# Altium footprint library MLB_PCBLib.PcbLib: 75 footprints (part 2 of 5)
Each footprint in its own frame and in the unit in brackets; x right, y up, seen from the top. Pads: shape width x height; smd on the part's side, far side on the other; paste and mask are expansions set on the pad; w line width, h text height; cw(c..) or ccw(c..) is an arc to the next point about the centre after c.
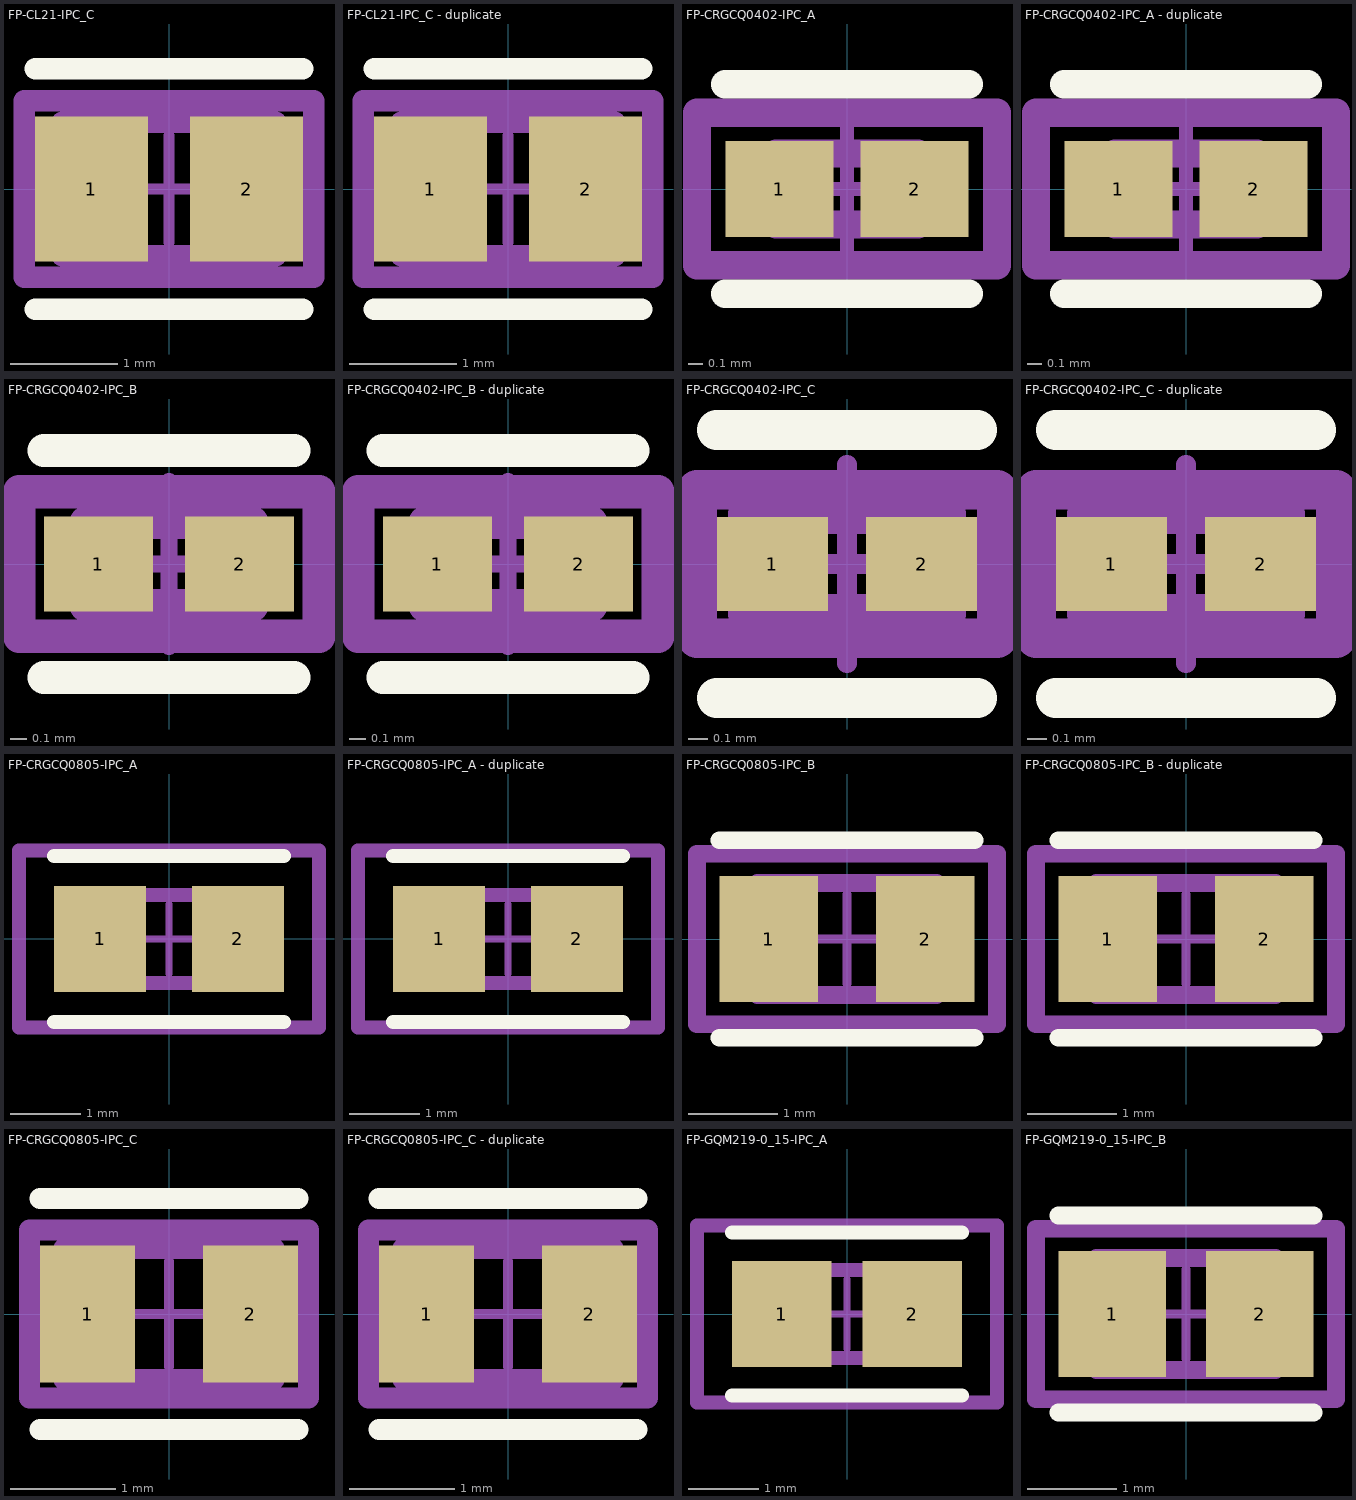
[diagram p1: the footprints below, top view; thin cyan lines are the x and y axes]

## FP-CL21-IPC_C [mm]
pads (2):
  rect 1.055x1.356 smd paste+0 mask+0: 1(-0.726,0) 2(0.726,0)
Top Overlay:
  lines w0.2: -1.253,-1.125 1.253,-1.125 ; -1.253,1.125 1.253,1.125
Top 3D Body:
  lines w0.2: -1,-0.625 -1,0.625 1,0.625 1,-0.625 -1,-0.625
Top Assembly:
  lines w0.2: -1.353,-0.825 -1.353,0.825 1.353,0.825 1.353,-0.825 -1.353,-0.825
  text ".Designator" at 0,0.188 h1
Top Courtyard:
  lines w0.2: -1.353,-0.825 -1.353,0.825 1.353,0.825 1.353,-0.825 -1.353,-0.825
Top Component Center:
  lines w0.1: -0.5,0 0.5,0 ; 0,-0.5 0,0.5
3D body "Cap_Samsung_CL21B273KBANNNC_eec.STEP": height 0.25, standoff 0, extent -1.353,-0.825 1.353,0.825

## FP-CL21-IPC_C - duplicate [mm]
pads (2):
  rect 1.055x1.356 smd paste+0 mask+0: 1(-0.726,0) 2(0.726,0)
Top Overlay:
  lines w0.2: -1.253,-1.125 1.253,-1.125 ; -1.253,1.125 1.253,1.125
Top 3D Body:
  lines w0.2: -1,-0.625 -1,0.625 1,0.625 1,-0.625 -1,-0.625
Top Assembly:
  lines w0.2: -1.353,-0.825 -1.353,0.825 1.353,0.825 1.353,-0.825 -1.353,-0.825
  text ".Designator" at 0,0.188 h1
Top Courtyard:
  lines w0.2: -1.353,-0.825 -1.353,0.825 1.353,0.825 1.353,-0.825 -1.353,-0.825
Top Component Center:
  lines w0.1: -0.5,0 0.5,0 ; 0,-0.5 0,0.5
3D body "Cap_Samsung_CL21B273KBANNNC_eec.STEP": height 0.25, standoff 0, extent -1.353,-0.825 1.353,0.825

## FP-CRGCQ0402-IPC_A [mm]
pads (2):
  rect 0.76x0.672 smd paste+0 mask+0: 1(-0.476,0) 2(0.476,0)
Top Overlay:
  lines w0.2: -0.856,-0.736 0.856,-0.736 ; -0.856,0.736 0.856,0.736
Top 3D Body:
  lines w0.2: -0.5,-0.25 0.5,-0.25 0.5,0.25 -0.5,0.25 -0.5,-0.25
Top Assembly:
  lines w0.2: -1.056,-0.536 1.056,-0.536 1.056,0.536 -1.056,0.536 -1.056,-0.536
  text ".Designator" at 0,0.188 h1
Top Courtyard:
  lines w0.2: -1.056,-0.536 1.056,-0.536 1.056,0.536 -1.056,0.536 -1.056,-0.536
Top Component Center:
  lines w0.1: -0.5,0 0.5,0 ; 0,-0.5 0,0.5
3D body "Res_TE_Connectivity_CRGCQ0402F10R_eec.STEP": height 0.25, standoff 0, extent -1.056,-0.536 1.056,0.536

## FP-CRGCQ0402-IPC_A - duplicate [mm]
pads (2):
  rect 0.76x0.672 smd paste+0 mask+0: 1(-0.476,0) 2(0.476,0)
Top Overlay:
  lines w0.2: -0.856,-0.736 0.856,-0.736 ; -0.856,0.736 0.856,0.736
Top 3D Body:
  lines w0.2: -0.5,-0.25 0.5,-0.25 0.5,0.25 -0.5,0.25 -0.5,-0.25
Top Assembly:
  lines w0.2: -1.056,-0.536 1.056,-0.536 1.056,0.536 -1.056,0.536 -1.056,-0.536
  text ".Designator" at 0,0.188 h1
Top Courtyard:
  lines w0.2: -1.056,-0.536 1.056,-0.536 1.056,0.536 -1.056,0.536 -1.056,-0.536
Top Component Center:
  lines w0.1: -0.5,0 0.5,0 ; 0,-0.5 0,0.5
3D body "Res_TE_Connectivity_CRGCQ0402F10R_eec.STEP": height 0.25, standoff 0, extent -1.056,-0.536 1.056,0.536

## FP-CRGCQ0402-IPC_B [mm]
pads (2):
  rect 0.66x0.572 smd paste+0 mask+0: 1(-0.426,0) 2(0.426,0)
Top Overlay:
  lines w0.2: -0.756,-0.686 0.756,-0.686 ; -0.756,0.686 0.756,0.686
Top 3D Body:
  lines w0.2: -0.5,-0.25 -0.5,0.25 0.5,0.25 0.5,-0.25 -0.5,-0.25
Top Assembly:
  lines w0.2: -0.906,-0.436 -0.906,0.436 0.906,0.436 0.906,-0.436 -0.906,-0.436
  text ".Designator" at 0,0.188 h1
Top Courtyard:
  lines w0.2: -0.906,-0.436 -0.906,0.436 0.906,0.436 0.906,-0.436 -0.906,-0.436
Top Component Center:
  lines w0.1: -0.5,0 0.5,0 ; 0,-0.5 0,0.5
3D body "Res_TE_Connectivity_CRGCQ0402F10R_eec.STEP": height 0.25, standoff 0, extent -0.906,-0.436 0.906,0.436

## FP-CRGCQ0402-IPC_B - duplicate [mm]
pads (2):
  rect 0.66x0.572 smd paste+0 mask+0: 1(-0.426,0) 2(0.426,0)
Top Overlay:
  lines w0.2: -0.756,-0.686 0.756,-0.686 ; -0.756,0.686 0.756,0.686
Top 3D Body:
  lines w0.2: -0.5,-0.25 -0.5,0.25 0.5,0.25 0.5,-0.25 -0.5,-0.25
Top Assembly:
  lines w0.2: -0.906,-0.436 -0.906,0.436 0.906,0.436 0.906,-0.436 -0.906,-0.436
  text ".Designator" at 0,0.188 h1
Top Courtyard:
  lines w0.2: -0.906,-0.436 -0.906,0.436 0.906,0.436 0.906,-0.436 -0.906,-0.436
Top Component Center:
  lines w0.1: -0.5,0 0.5,0 ; 0,-0.5 0,0.5
3D body "Res_TE_Connectivity_CRGCQ0402F10R_eec.STEP": height 0.25, standoff 0, extent -0.906,-0.436 0.906,0.436

## FP-CRGCQ0402-IPC_C [mm]
pads (2):
  rect 0.56x0.472 smd paste+0 mask+0: 1(-0.376,0) 2(0.376,0)
Top Overlay:
  lines w0.2: -0.656,-0.675 0.656,-0.675 ; -0.656,0.675 0.656,0.675
Top 3D Body:
  lines w0.2: -0.5,-0.25 -0.5,0.25 0.5,0.25 0.5,-0.25 -0.5,-0.25
Top Assembly:
  lines w0.2: -0.756,-0.375 -0.756,0.375 0.756,0.375 0.756,-0.375 -0.756,-0.375
  text ".Designator" at 0,0.188 h1
Top Courtyard:
  lines w0.2: -0.756,-0.375 -0.756,0.375 0.756,0.375 0.756,-0.375 -0.756,-0.375
Top Component Center:
  lines w0.1: -0.5,0 0.5,0 ; 0,-0.5 0,0.5
3D body "Res_TE_Connectivity_CRGCQ0402F10R_eec.STEP": height 0.25, standoff 0, extent -0.756,-0.375 0.756,0.375

## FP-CRGCQ0402-IPC_C - duplicate [mm]
pads (2):
  rect 0.56x0.472 smd paste+0 mask+0: 1(-0.376,0) 2(0.376,0)
Top Overlay:
  lines w0.2: -0.656,-0.675 0.656,-0.675 ; -0.656,0.675 0.656,0.675
Top 3D Body:
  lines w0.2: -0.5,-0.25 -0.5,0.25 0.5,0.25 0.5,-0.25 -0.5,-0.25
Top Assembly:
  lines w0.2: -0.756,-0.375 -0.756,0.375 0.756,0.375 0.756,-0.375 -0.756,-0.375
  text ".Designator" at 0,0.188 h1
Top Courtyard:
  lines w0.2: -0.756,-0.375 -0.756,0.375 0.756,0.375 0.756,-0.375 -0.756,-0.375
Top Component Center:
  lines w0.1: -0.5,0 0.5,0 ; 0,-0.5 0,0.5
3D body "Res_TE_Connectivity_CRGCQ0402F10R_eec.STEP": height 0.25, standoff 0, extent -0.756,-0.375 0.756,0.375

## FP-CRGCQ0805-IPC_A [mm]
pads (2):
  rect 1.306x1.51 smd paste+0 mask+0: 1(-0.976,0) 2(0.976,0)
Top Overlay:
  lines w0.2: -1.629,-1.18 1.629,-1.18 ; -1.629,1.18 1.629,1.18
Top 3D Body:
  lines w0.2: -1,-0.625 1,-0.625 1,0.625 -1,0.625 -1,-0.625
Top Assembly:
  lines w0.2: -2.129,-1.255 2.129,-1.255 2.129,1.255 -2.129,1.255 -2.129,-1.255
  text ".Designator" at 0,0.188 h1
Top Courtyard:
  lines w0.2: -2.129,-1.255 2.129,-1.255 2.129,1.255 -2.129,1.255 -2.129,-1.255
Top Component Center:
  lines w0.1: -0.5,0 0.5,0 ; 0,-0.5 0,0.5
3D body "Res_TE_Connectivity_CRGCQ0805F180R_eec.STEP": height 0.25, standoff 0, extent -2.129,-1.255 2.129,1.255

## FP-CRGCQ0805-IPC_A - duplicate [mm]
pads (2):
  rect 1.306x1.51 smd paste+0 mask+0: 1(-0.976,0) 2(0.976,0)
Top Overlay:
  lines w0.2: -1.629,-1.18 1.629,-1.18 ; -1.629,1.18 1.629,1.18
Top 3D Body:
  lines w0.2: -1,-0.625 1,-0.625 1,0.625 -1,0.625 -1,-0.625
Top Assembly:
  lines w0.2: -2.129,-1.255 2.129,-1.255 2.129,1.255 -2.129,1.255 -2.129,-1.255
  text ".Designator" at 0,0.188 h1
Top Courtyard:
  lines w0.2: -2.129,-1.255 2.129,-1.255 2.129,1.255 -2.129,1.255 -2.129,-1.255
Top Component Center:
  lines w0.1: -0.5,0 0.5,0 ; 0,-0.5 0,0.5
3D body "Res_TE_Connectivity_CRGCQ0805F180R_eec.STEP": height 0.25, standoff 0, extent -2.129,-1.255 2.129,1.255

## FP-CRGCQ0805-IPC_B [mm]
pads (2):
  rect 1.106x1.41 smd paste+0 mask+0: 1(-0.876,0) 2(0.876,0)
Top Overlay:
  lines w0.2: -1.429,-1.105 1.429,-1.105 ; -1.429,1.105 1.429,1.105
Top 3D Body:
  lines w0.2: -1,-0.625 -1,0.625 1,0.625 1,-0.625 -1,-0.625
Top Assembly:
  lines w0.2: -1.679,-0.955 -1.679,0.955 1.679,0.955 1.679,-0.955 -1.679,-0.955
  text ".Designator" at 0,0.188 h1
Top Courtyard:
  lines w0.2: -1.679,-0.955 -1.679,0.955 1.679,0.955 1.679,-0.955 -1.679,-0.955
Top Component Center:
  lines w0.1: -0.5,0 0.5,0 ; 0,-0.5 0,0.5
3D body "Res_TE_Connectivity_CRGCQ0805F180R_eec.STEP": height 0.25, standoff 0, extent -1.679,-0.955 1.679,0.955

## FP-CRGCQ0805-IPC_B - duplicate [mm]
pads (2):
  rect 1.106x1.41 smd paste+0 mask+0: 1(-0.876,0) 2(0.876,0)
Top Overlay:
  lines w0.2: -1.429,-1.105 1.429,-1.105 ; -1.429,1.105 1.429,1.105
Top 3D Body:
  lines w0.2: -1,-0.625 -1,0.625 1,0.625 1,-0.625 -1,-0.625
Top Assembly:
  lines w0.2: -1.679,-0.955 -1.679,0.955 1.679,0.955 1.679,-0.955 -1.679,-0.955
  text ".Designator" at 0,0.188 h1
Top Courtyard:
  lines w0.2: -1.679,-0.955 -1.679,0.955 1.679,0.955 1.679,-0.955 -1.679,-0.955
Top Component Center:
  lines w0.1: -0.5,0 0.5,0 ; 0,-0.5 0,0.5
3D body "Res_TE_Connectivity_CRGCQ0805F180R_eec.STEP": height 0.25, standoff 0, extent -1.679,-0.955 1.679,0.955

## FP-CRGCQ0805-IPC_C [mm]
pads (2):
  rect 0.906x1.31 smd paste+0 mask+0: 1(-0.776,0) 2(0.776,0)
Top Overlay:
  lines w0.2: -1.229,-1.1 1.229,-1.1 ; -1.229,1.1 1.229,1.1
Top 3D Body:
  lines w0.2: -1,-0.625 1,-0.625 1,0.625 -1,0.625 -1,-0.625
Top Assembly:
  lines w0.2: -1.329,-0.8 1.329,-0.8 1.329,0.8 -1.329,0.8 -1.329,-0.8
  text ".Designator" at 0,0.188 h1
Top Courtyard:
  lines w0.2: -1.329,-0.8 1.329,-0.8 1.329,0.8 -1.329,0.8 -1.329,-0.8
Top Component Center:
  lines w0.1: -0.5,0 0.5,0 ; 0,-0.5 0,0.5
3D body "Res_TE_Connectivity_CRGCQ0805F180R_eec.STEP": height 0.25, standoff 0, extent -1.329,-0.8 1.329,0.8

## FP-CRGCQ0805-IPC_C - duplicate [mm]
pads (2):
  rect 0.906x1.31 smd paste+0 mask+0: 1(-0.776,0) 2(0.776,0)
Top Overlay:
  lines w0.2: -1.229,-1.1 1.229,-1.1 ; -1.229,1.1 1.229,1.1
Top 3D Body:
  lines w0.2: -1,-0.625 -1,0.625 1,0.625 1,-0.625 -1,-0.625
Top Assembly:
  lines w0.2: -1.329,-0.8 -1.329,0.8 1.329,0.8 1.329,-0.8 -1.329,-0.8
  text ".Designator" at 0,0.188 h1
Top Courtyard:
  lines w0.2: -1.329,-0.8 -1.329,0.8 1.329,0.8 1.329,-0.8 -1.329,-0.8
Top Component Center:
  lines w0.1: -0.5,0 0.5,0 ; 0,-0.5 0,0.5
3D body "Res_TE_Connectivity_CRGCQ0805F180R_eec.STEP": height 0.25, standoff 0, extent -1.329,-0.8 1.329,0.8

## FP-GQM219-0_15-IPC_A [mm]
pads (2):
  rect 1.406x1.508 smd paste+0 mask+0: 1(-0.926,0) 2(0.926,0)
Top Overlay:
  lines w0.2: -1.629,-1.154 1.629,-1.154 ; -1.629,1.154 1.629,1.154
Top 3D Body:
  lines w0.2: -1,-0.625 -1,0.625 1,0.625 1,-0.625 -1,-0.625
Top Assembly:
  lines w0.2: -2.129,-1.254 -2.129,1.254 2.129,1.254 2.129,-1.254 -2.129,-1.254
  text ".Designator" at 0,0.188 h1
Top Courtyard:
  lines w0.2: -2.129,-1.254 -2.129,1.254 2.129,1.254 2.129,-1.254 -2.129,-1.254
Top Component Center:
  lines w0.1: -0.5,0 0.5,0 ; 0,-0.5 0,0.5
3D body "Cap_Murata_GQM2195G2E5R4CB12D_eec.STEP": height 0.25, standoff 0, extent -2.129,-1.254 2.129,1.254

## FP-GQM219-0_15-IPC_B [mm]
pads (2):
  rect 1.206x1.408 smd paste+0 mask+0: 1(-0.826,0) 2(0.826,0)
Top Overlay:
  lines w0.2: -1.429,-1.104 1.429,-1.104 ; -1.429,1.104 1.429,1.104
Top 3D Body:
  lines w0.2: -1,-0.625 1,-0.625 1,0.625 -1,0.625 -1,-0.625
Top Assembly:
  lines w0.2: -1.679,-0.954 1.679,-0.954 1.679,0.954 -1.679,0.954 -1.679,-0.954
  text ".Designator" at 0,0.188 h1
Top Courtyard:
  lines w0.2: -1.679,-0.954 1.679,-0.954 1.679,0.954 -1.679,0.954 -1.679,-0.954
Top Component Center:
  lines w0.1: -0.5,0 0.5,0 ; 0,-0.5 0,0.5
3D body "Cap_Murata_GQM2195G2E5R4CB12D_eec.STEP": height 0.25, standoff 0, extent -1.679,-0.954 1.679,0.954